# EAGLE library part LM567CM (library Virulent_HW)
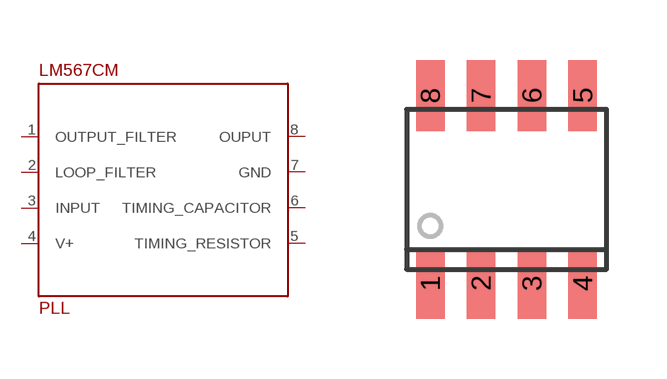
[diagram p26: symbol with the pads of SOIC-8; footprint SOIC-8]

Designator prefix PLL

## LM567CM/NOPB-ND  [SOIC-8]
1  OUTPUT_FILTER
2  LOOP_FILTER
3  INPUT
4  V+
5  TIMING_RESISTOR
6  TIMING_CAPACITOR
7  GND
8  OUPUT

## Footprint SOIC-8 (pad centres in mm)
smd 0.711 x 1.778: 1 -1.905,-2.349; 2 -0.635,-2.349; 3 0.635,-2.349; 4 1.905,-2.349; 5 1.905,2.349; 6 0.635,2.349; 7 -0.635,2.349; 8 -1.905,2.349